# Altium footprint library Seeed-OPL-Connector.PCBLIB: 183 footprints (part 12 of 12)
Each footprint in its own frame and in the unit in brackets; x right, y up, seen from the top. Pads: shape width x height; smd on the part's side, far side on the other; paste and mask are expansions set on the pad; w line width, h text height; cw(c..) or ccw(c..) is an arc to the next point about the centre after c.
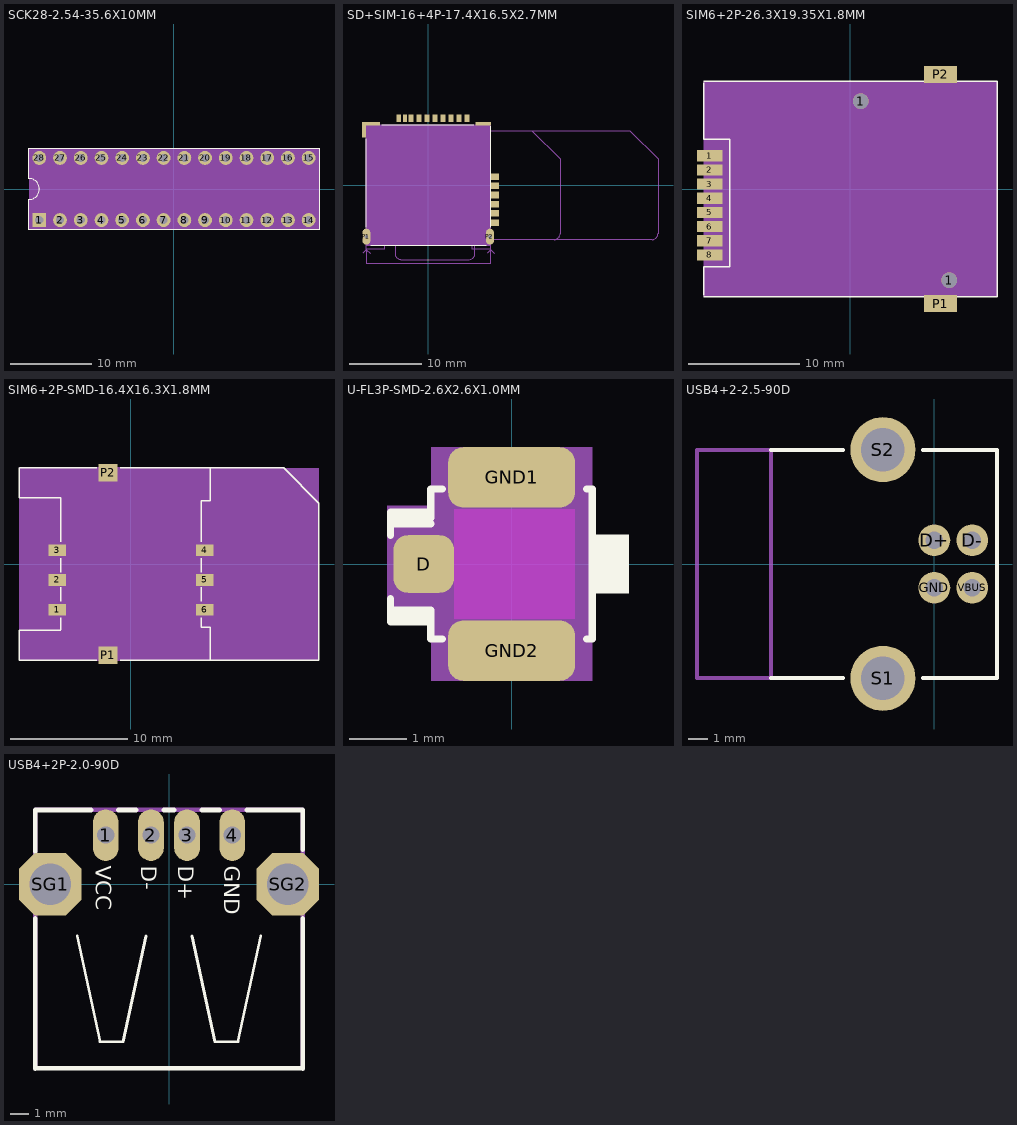
[diagram p11: the footprints below, top view; thin cyan lines are the x and y axes]

## SCK28-2.54-35.6X10MM [mm]
pads (28):
  rect 1.7x1.7 hole 1: 1(-16.51,-3.81)
  round 1.7 hole 1: 2(-13.97,-3.81) 3(-11.43,-3.81) 4(-8.89,-3.81) 5(-6.35,-3.81) 6(-3.81,-3.81) 7(-1.27,-3.81) 8(1.27,-3.81) 9(3.81,-3.81) 10(6.35,-3.81) 11(8.89,-3.81) 12(11.43,-3.81) 13(13.97,-3.81) 14(16.51,-3.81) 15(16.51,3.81) 16(13.97,3.81) 17(11.43,3.81) 18(8.89,3.81) 19(6.35,3.81) 20(3.81,3.81) 21(1.27,3.81) 22(-1.27,3.81) 23(-3.81,3.81) 24(-6.35,3.81) 25(-8.89,3.81) 26(-11.43,3.81) 27(-13.97,3.81) 28(-16.51,3.81)
Top Overlay:
  lines w0.127: -17.78,-5 17.78,-5 17.78,5 -17.78,5 -17.78,1.27 cw(c-17.755,0.025) -16.51,0.05 -16.51,-0.05 cw(c-17.755,-0.025) -17.78,-1.27 -17.78,-5
Mechanical 27:
  rectangle: -17.78,-5 17.78,5

## SD+SIM-16+4P-17.4X16.5X2.7MM [mm]
pads (21):
  rect 0.7x1 smd: 1(-2.35,9.25) 2(-1.25,9.25) 3(-0.15,9.25) 4(0.95,9.25) 5(2.05,9.25) 6(3.15,9.25) 7(4.25,9.25) 8(5.35,9.25)
  rect 1.1x0.9 smd: C1(9.25,-5.16) C2(9.25,-2.62) C3(9.25,-0.08) C5(9.25,-3.89) C6(9.25,-1.35) C7(9.25,1.19)
  oval 1.1x2.2 hole 0.5: P1(-8.525,-7.1) P2(8.525,-7.1)
  rect 0.5x1.65 smd: P3(-8.85,7.425)
  rect 2.45x0.5 smd: P4(-7.875,8.5)
  rect 2.13x0.5 smd: P5(7.585,8.5)
  rect 0.6x1 smd: SA(-4.05,9.25) SB(-3.2,9.25)
Top Overlay:
  lines w0.127: -8.6,-5.8 -8.6,6.4 ; -7.9,-8.25 8,-8.25 ; -6.4,8.25 6.3,8.25 ; 8.6,-5.8 8.6,8.1
Mechanical 11:
  lines w0.127: -9.017,-9.398 -8.509,-8.89 ; -8.001,-9.398 -8.509,-8.89 ; 8.128,-9.398 8.636,-8.89 ; 9.144,-9.398 8.636,-8.89 ; -8.509,-8.89 -8.509,-10.795 8.636,-10.795 8.636,-8.89
  lines w0.5: -8.525,-7.6 -8.525,-6.6 ; 8.525,-7.6 8.525,-6.6
  text "slot the drills with copper" at -8.89,-12.065 h1.38
Mechanical 14:
  lines w0.127: -8.6,-8.25 -8.6,-8.75 -6,-8.75 -6,-7.25 6,-7.25 6,-8.75 8.6,-8.75 8.6,-8.25 ; -4.55,-8.255 -4.55,-9.45 ccw(c-3.75,-9.45) -3.75,-10.25 5.65,-10.25 ccw(c5.65,-9.45) 6.45,-9.45 6.45,-8.255 ; 8.6,-7.5 30.9,-7.5 ccw(c30.9,-6.7) 31.7,-6.7 31.7,3.628 27.789,7.5 8.6,7.5 ; 8.636,-7.5 17.4,-7.5 ccw(c17.4,-6.7) 18.2,-6.7 18.2,3.628 14.29,7.5 8.636,7.5
  text "SIM Card Eject Area" at 24.638,-6.477 h1.26
Mechanical 16:
  lines w0.127: -8.6,-8.25 8.6,-8.25 8.6,8.25 -8.6,8.25 -8.6,-8.25
Mechanical 27:
  rectangle: -8.636,-8.255 8.636,8.255

## SIM6+2P-26.3X19.35X1.8MM [mm]
pads (12):
  rect 2.3x1 smd: 1(-12.6,2.985) 2(-12.6,1.715) 3(-12.6,0.445) 4(-12.6,-0.825) 5(-12.6,-2.095) 6(-12.6,-3.365) 7(-12.6,-4.635) 8(-12.6,-5.905)
  round 1.4 hole 1.4: 1(0.93,7.885) 1(8.87,-8.165)
  rect 2.95x1.5 smd: P1(8.1,-10.275) P2(8.1,10.275)
Top Overlay:
  lines w0.127: -13.15,-9.675 13.15,-9.675 13.15,9.675 -13.15,9.675 ; -13.15,-9.525 -13.15,-6.985 -10.795,-6.985 -10.795,4.445 -13.15,4.445 -13.15,9.525
Mechanical 27:
  rectangle: -13.15,-9.675 13.15,9.675

## SIM6+2P-SMD-16.4X16.3X1.8MM [mm]
pads (8):
  rect 1.5x1 smd: 1(-6.3,-3.9) 2(-6.3,-1.36) 3(-6.3,1.18) 4(6.3,1.18) 5(6.3,-1.36) 6(6.3,-3.9)
  rect 1.6x1.5 smd: P1(-1.95,-7.8) P2(-1.95,7.8)
Top Overlay:
  lines w0.127: -9.55,8.2 -9.55,5.65 -6,5.65 -6,1.9 ; -9.5,8.2 -2.9,8.2 ; -6,-5.65 -9.55,-5.65 -9.55,-8.2 -2.9,-8.2 ; -6,-5.6 -6,-4.6 ; -6,-3.2 -6,-2 ; -6,-0.7 -6,0.5 ; -0.9,-8.2 6.75,-8.2 ; -0.9,8.2 6.75,8.2 ; 5.981,-5.4 6,-5.4 ; 5.981,5.4 6,5.4 ; 6,-4.6 6,-5.4 ; 6,-3.2 6,-2 ; 6,-0.7 6,0.5 ; 6,1.9 6,5.4 ; 6,-5.4 6.75,-5.4 6.75,-8.2 ; 6,5.4 6.75,5.4 6.75,8.2 ; 6.75,-8.2 16.05,-8.2 16.05,5.2 13.05,8.2 6.75,8.2
Mechanical 16:
  lines w0.127: -9.55,-8.2 6.75,-8.2 ; -9.55,8.2 6.75,8.2 ; -6,-5.65 -6,5.65 ; 5.981,-5.4 5.981,5.4
Mechanical 27:
  rectangle: -9.55,-8.2 16.05,8.2

## U-FL3P-SMD-2.6X2.6X1.0MM [mil]
pads (3):
  rrect50% 41.34x39.37 smd: D(-60,0)
  rrect50% 86.61x41.34 smd: GND1(0,59.06) GND2(0,-59.06)
Top Overlay:
  rectangle: 55,-20 80,20
  lines w5: -82.68,-23.62 -82.68,-31.5 ; -82.68,19.69 -82.68,27.56 ; -55.12,27.56 -82.68,27.56 ; -47.24,-51.18 -55.12,-51.18 -55.12,-39.37 ; -47.24,51.18 -55.12,51.18 -55.12,35.43 ; -35.43,51.18 -35.43,59.06 ; 51.18,-51.18 55.12,-51.18 ; 51.18,51.18 55.12,51.18 ; 55,-51.18 55,51.18 ; -82.68,-35.43 -82.68,-39.37 -55.12,-39.37 ; -82.68,-35.43 -82.68,-31.5 ; -82.68,-35.43 -55.12,-35.43 ; -82.68,-31.5 -55.12,-31.5 -55.12,-35.43 ; -82.68,27.56 -82.68,31.5 ; -82.68,31.5 -82.68,35.43 -55.12,35.43 ; -82.68,31.5 -55.12,31.5 -55.12,35.43 ; -55.12,-39.37 -55.12,-35.43
Mechanical 8 keep-out:
  rectangle: -39.37,-37.4 43.31,37.4
Mechanical 16:
  rectangle: -85,-40 -55,40
  lines w5: -55,-30 -55,-51.18 -35.43,-51.18 ; -55,30 -55,51.18 -35.43,51.18 35.43,51.18 ; -35.43,59.06 35.43,59.06 35.43,51.18 ; 55,-51.18 35.43,-51.18 ; 55,51.18 35.43,51.18 ; -35.43,-51.18 35.43,-51.18 ; -35.43,-51.18 -35.43,-59.06 35.43,-59.06 35.43,-51.18
Mechanical 27:
  rectangle: -55,-80 55,80

## USB4+2-2.5-90D [mil]
pads (6):
  round 66 hole 36: D+(0,49.21) D-(78.74,49.21) GND(0,-49.21) VBUS(78.74,-49.21)
  round 135 hole 90: S1(-106.69,-237.01) S2(-106.69,237.01)
Top Overlay:
  lines w8: -338.58,-236.22 -188.98,-236.22 ; -338.58,236.22 -188.98,236.22 ; -23.62,-236.22 129.92,-236.22 129.92,236.22 -23.62,236.22
Mechanical 16:
  lines w8: -492.13,-236.22 -338.58,-236.22 -338.58,236.22 -492.13,236.22 -492.13,-236.22

## USB4+2P-2.0-90D [mm]
pads (6):
  oval 1.425x2.85 hole 0.95: 1(-3.5,2.71) 2(-1,2.71) 3(1,2.71) 4(3.5,2.71)
  oct 3.45x3.45 hole 2.3: SG1(-6.57,0) SG2(6.57,0)
Top Overlay:
  lines w0.152: -5.08,-2.87 -3.81,-8.72 -2.54,-8.72 -1.27,-2.87 ; 1.27,-2.87 2.54,-8.72 3.81,-8.72 5.08,-2.87
  lines w0.254: -7.4,-10.2 -7.4,-1.9 ; -7.4,-10.19 7.4,-10.19 ; -7.4,1.8 -7.4,4.1 -4.3,4.1 ; -2.8,4.1 -1.8,4.1 ; -0.3,4.1 0.3,4.1 ; 1.8,4.1 2.8,4.1 ; 4.3,4.1 7.4,4.1 7.4,1.9 ; 7.4,-10.2 7.4,-1.9
  text "VCC" at -4.064,1.016 h0.86
  text "D-" at -1.524,1.016 h0.86
  text "D+" at 0.508,1.016 h0.86
  text "GND" at 3.048,1.016 h0.86
Mechanical 16:
  lines w0.254: -7.4,-10.19 -7.4,4.11 7.4,4.11 7.4,-10.19